# EAGLE library part XFMR-COILCRAFT-A9784-BL_ (library tube-audio-library)
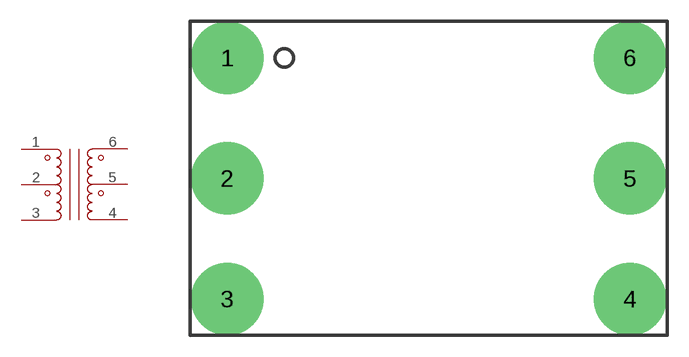
[diagram p0: symbol with the pads of XFMR-COILCRAFT-A9784-BL_; footprint XFMR-COILCRAFT-A9784-BL_]

Designator prefix XFMR

## XFMR-COILCRAFT-A9784-BL_ (VALUE: COILCRAFT-A9784-BL_)  [XFMR-COILCRAFT-A9784-BL_]
1  INPUT_TOP
2  INPUT_MIDDLE
3  INPUT_BOTTOM
4  OUTPUT_BOTTOM
5  OUTPUT_MIDDLE
6  OUTPUT_TOP

## Footprint XFMR-COILCRAFT-A9784-BL_ (pad centres in mm)
drill 2.667 pad 5.08: 1 -14.161,8.484; 2 -14.161,0; 3 -14.161,-8.484; 4 14.161,-8.484; 5 14.161,0; 6 14.161,8.484